# Altium schematic symbol library Schlib1.SchLib: 9 symbols
Pins are listed as number, name and electrical type; pins without a type are passive.

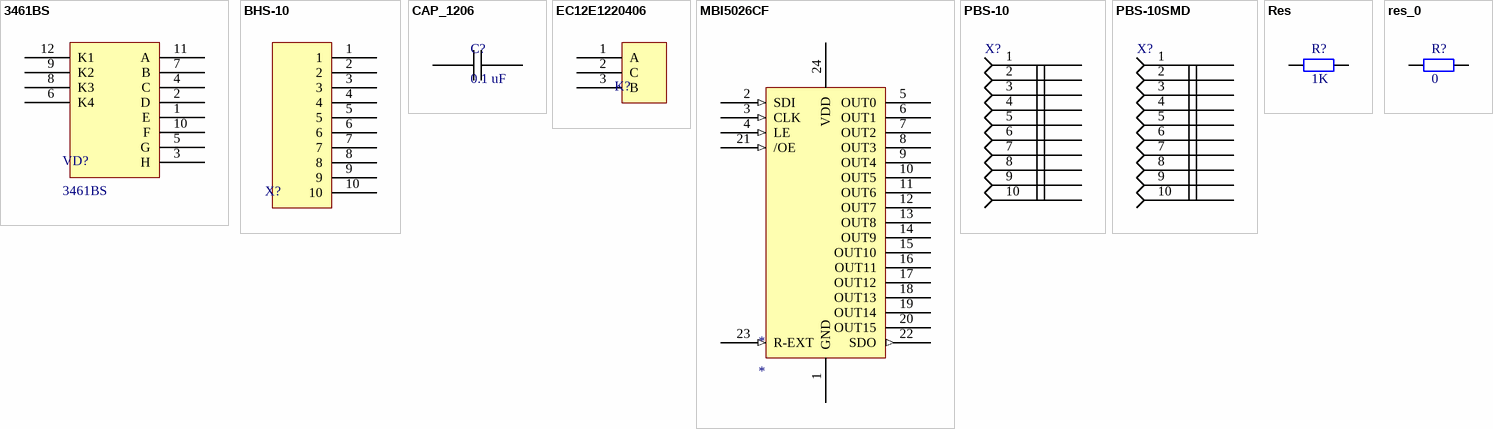
[diagram p0: symbols 3461BS to res_0]

## 3461BS
designator VD?
footprint 3461bs
pins: 1 E, 2 D, 3 H, 4 C, 5 G, 6 K4, 7 B, 8 K3, 9 K2, 10 F, 11 A, 12 K1

## BHS-10
designator X?  (value not drawn)
footprint BHS-10
pins: 1, 2, 3, 4, 5, 6, 7, 8, 9, 10

## CAP_1206
designator C?, comment 0.1 uF
footprint R1206
pins: 1, 2

## EC12E1220406
designator K?, comment EC12  (value not drawn)
footprint EC12E1220406
pins: 1 A, 2 C, 3 B

## MBI5026CF
designator *
footprint SOP24
pins: 1 GND (power), 2 SDI (in), 3 CLK (in), 4 LE (in), 5 OUT0 (oc), 6 OUT1 (oc), 7 OUT2 (oc), 8 OUT3 (oc), 9 OUT4 (oc), 10 OUT5 (oc), 11 OUT6 (oc), 12 OUT7 (oc), 13 OUT8 (oc), 14 OUT9 (oc), 15 OUT10 (oc), 16 OUT11 (oc), 17 OUT12 (oc), 18 OUT13 (oc), 19 OUT14 (oc), 20 OUT15 (oc), 21 /OE (in), 22 SDO (out), 23 R-EXT (in), 24 VDD (power)

## PBS-10
designator X?  (value not drawn)
footprint PBS-10
pins: 1, 2, 3, 4, 5, 6, 7, 8, 9, 10

## PBS-10SMD
designator X?  (value not drawn)
footprint PBS-10SMD
pins: 1, 2, 3, 4, 5, 6, 7, 8, 9, 10

## Res
designator R?, comment 1K
footprint R1206
pins: 1, 2
1 alternate drawing of the same symbol

## res_0
designator R?, comment 0
footprint R1206_jmp
pins: 1, 2